# Altium footprint library VOLTAGE_REG(STEP_DOWN, 400mA, 12WSON).PcbLib: 1 footprints
Each footprint in its own frame and in the unit in brackets; x right, y up, seen from the top. Pads: shape width x height; smd on the part's side, far side on the other; paste and mask are expansions set on the pad; w line width, h text height; cw(c..) or ccw(c..) is an arc to the next point about the centre after c.
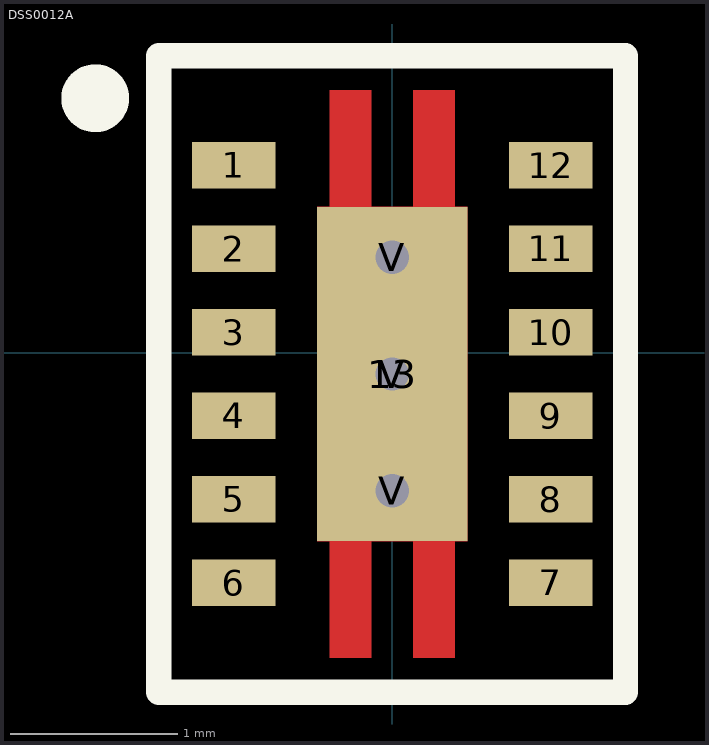
[diagram p0: the footprint, top view; thin cyan lines are the x and y axes]

## DSS0012A [mm]
pads (16):
  rect 0.5x0.28 smd paste-0.14 mask+0.076: 1(-0.95,1.123) 2(-0.95,0.623) 3(-0.95,0.123) 4(-0.95,-0.377) 5(-0.95,-0.877) 6(-0.95,-1.377) 7(0.95,-1.377) 8(0.95,-0.877) 9(0.95,-0.377) 10(0.95,0.123) 11(0.95,0.623) 12(0.95,1.123)
  rect 0.9x2 smd paste-0.45 mask+0.076: 13(0,-0.127)
  round 0.5 / inner round 1.524 / far side round 0.5 hole 0.2 paste-2539.97 mask+0.051: V(0,-0.127) V(0,-0.827) V(0,0.573)
Top Layer:
  region: -0.125,-1.827 -0.375,-1.827 -0.375,-1.127 -0.45,-1.127 -0.45,0.873 -0.375,0.873 -0.375,1.573 -0.125,1.573 -0.125,0.873 0.125,0.873 0.125,1.573 0.375,1.573 0.375,0.873 0.45,0.873 0.45,-1.127 0.375,-1.127 0.375,-1.827 0.125,-1.827 0.125,-1.127 -0.125,-1.127
Top Overlay:
  circle w0.254: c-1.778,1.524 r0.076
  lines w0.152: -1.397,-2.032 -1.397,1.778 1.397,1.778 1.397,-2.032 -1.397,-2.032
Top Paste:
  region: 0.7,1.248 0.7,0.998 1.2,0.998 1.2,1.248
  region: 0.7,0.748 0.7,0.498 1.2,0.498 1.2,0.748
  region: 0.7,0.248 0.7,-0.002 1.2,-0.002 1.2,0.248
  region: 0.7,-0.252 0.7,-0.502 1.2,-0.502 1.2,-0.252
  region: 0.7,-0.752 0.7,-1.002 1.2,-1.002 1.2,-0.752
  region: 0.7,-1.252 0.7,-1.502 1.2,-1.502 1.2,-1.252
  region: -1.2,-1.252 -1.2,-1.502 -0.7,-1.502 -0.7,-1.252
  region: -1.2,-0.752 -1.2,-1.002 -0.7,-1.002 -0.7,-0.752
  region: -1.2,-0.252 -1.2,-0.502 -0.7,-0.502 -0.7,-0.252
  region: -1.2,1.248 -1.2,0.998 -0.7,0.998 -0.7,1.248
  region: -1.2,0.748 -1.2,0.498 -0.7,0.498 -0.7,0.748
  region: -0.375,-1.227 -0.375,-1.827 -0.125,-1.827 -0.125,-1.227
  region: 0.375,-1.827 0.375,-1.227 0.125,-1.227 0.125,-1.827
  region: 0.375,0.973 0.375,1.573 0.125,1.573 0.125,0.973
  region: -0.35,0.673 -0.35,-0.927 0.35,-0.927 0.35,0.673
  region: -0.375,1.573 -0.375,0.973 -0.125,0.973 -0.125,1.573
  region: -1.2,0.248 -1.2,-0.002 -0.7,-0.002 -0.7,0.248
3D body "DSS0012A.stp": height 0.8, standoff 0, extent -1,-1.627 1,1.373